# EAGLE library part LS027B4DH01 (library ProjectFromKIKS)
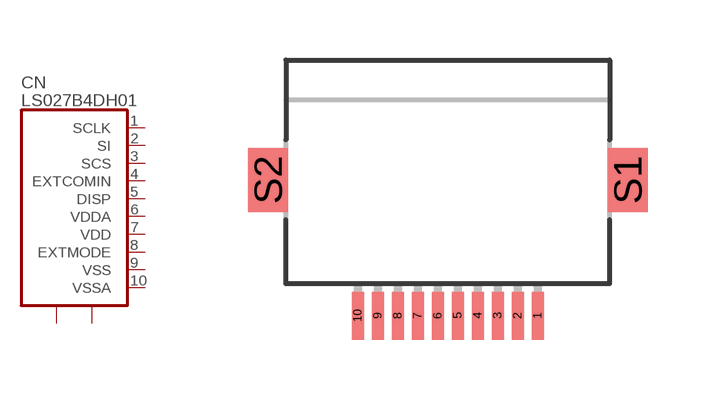
[diagram p8: symbol with the pads of LS027B4DH01; footprint LS027B4DH01]

Designator prefix CN

## LS027B4DH01  [LS027B4DH01]
1  SCLK
2  SI
3  SCS
4  EXTCOMIN
5  DISP
6  VDDA
7  VDD
8  EXTMODE
9  VSS
10  VSSA
S1  S1  pas
S2  S2  pas

## Footprint LS027B4DH01 (pad centres in mm)
smd 0.3 x 1.2: 1 2.25,-2; 2 1.75,-2; 3 1.25,-2; 4 0.75,-2; 5 0.25,-2; 6 -0.25,-2; 7 -0.75,-2; 8 -1.25,-2; 9 -1.75,-2; 10 -2.25,-2
smd 1 x 1.6: S1 4.5,1.4; S2 -4.5,1.4